# Altium footprint library Speaker.PcbLib: 12 footprints
Each footprint in its own frame and in the unit in brackets; x right, y up, seen from the top. Pads: shape width x height; smd on the part's side, far side on the other; paste and mask are expansions set on the pad; w line width, h text height; cw(c..) or ccw(c..) is an arc to the next point about the centre after c.
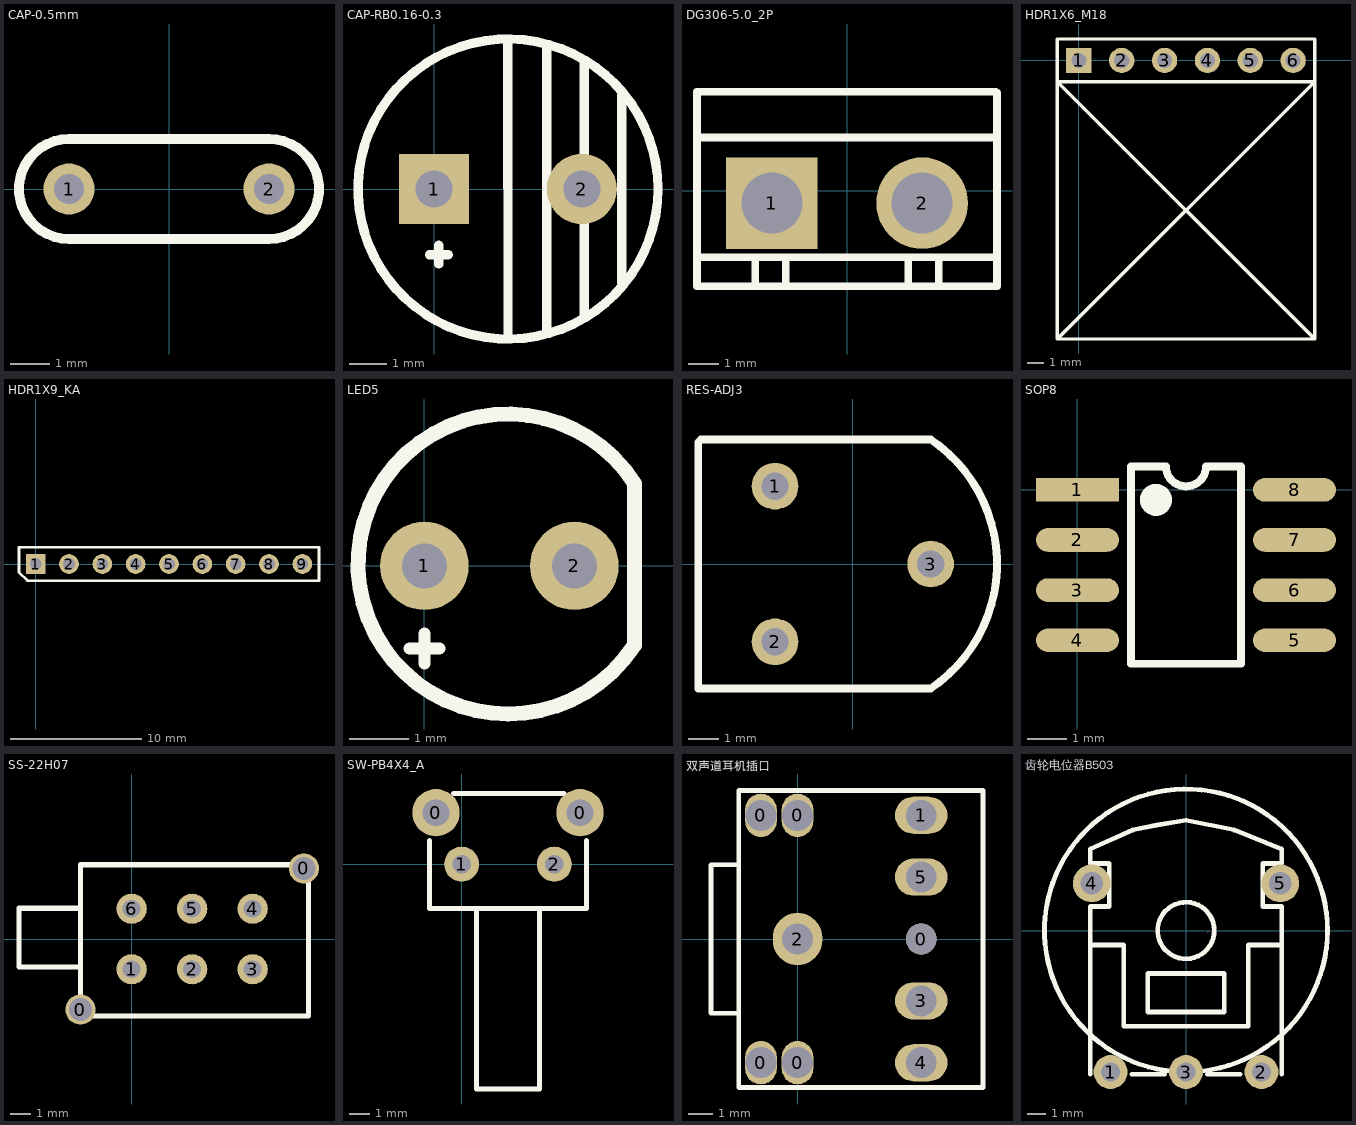
[diagram p0: the footprints below, top view; thin cyan lines are the x and y axes]

## CAP-0.5mm [mm]
pads (2):
  round 1.3 hole 0.762: 1(-2.54,0) 2(2.54,0)
Top Overlay:
  lines w0.254: -2.54,-1.27 cw(c-2.54,0) -2.54,1.27 2.54,1.27 cw(c2.54,0) 2.54,-1.27 -2.54,-1.27

## CAP-RB0.16-0.3 [mm]
pads (2):
  rect 1.9x1.9 hole 1: 1(0,0)
  round 1.9 hole 1: 2(4,0)
Top Overlay:
  circle w0.254: c2,0 r4.064
  lines w0.254: -0.127,-1.778 0.381,-1.778 ; 0.127,-2.032 0.127,-1.524 ; 1.993,3.937 1.999,-3.937 ; 3.048,-3.81 3.048,3.81 ; 4.064,-3.429 4.064,3.429 ; 5.08,-2.54 5.08,2.54

## DG306-5.0_2P [mil]
pads (2):
  rect 120x120 hole 80: 1(-98.5,-16)
  round 120 hole 80: 2(98.34,-16)
Top Overlay:
  lines w10: -196.5,-66.98 -196.5,-125 196.5,-125 196.5,-86.98 ; -196.5,115 -196.5,70 196.5,70 ; -120,-120 -120,-90 ; -80,-120 -80,-90 ; 80,-125 80,-90 ; 120,-125 120,-90 ; 196.5,-86.98 196.5,128.5 195,130 98.25,130 -98.25,130 -196.5,130 -196.5,-86.98 -63.51,-86.98 63.51,-86.98 133.5,-86.98 196.5,-86.98

## HDR1X6_M18 [mm] "Connector; Header; 6 Position"
pads (6):
  rect 1.5x1.5 hole 0.9: 1(0,0)
  round 1.5 hole 0.9: 2(2.54,0) 3(5.08,0) 4(7.62,0) 5(10.16,0) 6(12.7,0)
Top Overlay:
  lines w0.2: -1.27,-1.27 13.97,-1.27 13.97,1.27 -1.27,1.27 -1.27,-1.27
  lines w0.203: -1.27,-16.51 -1.27,-1.27 13.97,-16.51 ; -1.27,-16.51 13.97,-16.51 ; -1.27,-16.51 13.97,-1.27 13.97,-16.51

## HDR1X9_KA [mm] "Connector; Header; 9 Position"
pads (9):
  rect 1.5x1.5 hole 0.9: 1(0,0)
  round 1.5 hole 0.9: 2(2.54,0) 3(5.08,0) 4(7.62,0) 5(10.16,0) 6(12.7,0) 7(15.24,0) 8(17.78,0) 9(20.32,0)
Top Overlay:
  lines w0.2: -1.27,-0.635 -1.27,1.27 21.59,1.27 21.59,-1.27 -0.635,-1.27 -1.27,-0.635

## LED5 [mm]
pads (2):
  round 1.5 hole 0.762: 1(0,0) 2(2.54,0)
Top Overlay:
  lines w0.203: -0.254,-1.397 0.254,-1.397 ; 0,-1.651 0,-1.143
  lines w0.254: 3.528,-1.378 cw(c1.415,0.031) 3.556,1.397 3.556,-1.35

## RES-ADJ3 [mil]
pads (3):
  round 60 hole 35: 1(-100,100) 2(-100,-100) 3(100,0)
Top Overlay:
  lines w10: -198.52,-160 -198.52,-80 -198.52,80 -198.52,156.48 -195,160 100,160 cw(c-7.5,0) 100,-160 -195,-160

## SOP8 [mm]
height 1.75
pads (8):
  rect 2.1x0.6 smd: 1(0,0)
  oval 2.1x0.6 smd: 2(0,-1.27) 3(0,-2.54) 4(0,-3.81) 5(5.5,-3.81) 6(5.5,-2.54) 7(5.5,-1.27) 8(5.5,0)
Top Overlay:
  circle w0.5: c1.988,-0.254 r0.155
  lines w0.2: 1.353,0.595 1.353,-4.405 4.147,-4.405 4.147,0.595
  lines w0.203: 1.353,0.595 2.242,0.595 ccw(c2.75,0.595) 2.75,0.087 ccw(c2.75,0.595) 3.258,0.595 4.147,0.595

## SS-22H07 [mm]
pads (8):
  round 1.5 hole 1.143: 0(-2.54,-3.5) 0(8.54,3.5)
  round 1.5 hole 0.889: 1(0,-1.5) 2(3,-1.5) 3(6,-1.5) 4(6,1.5) 5(3,1.5) 6(0,1.5)
Top Overlay:
  lines w0.25: -2.54,3.683 8.763,3.683 8.763,2.821 8.763,-3.683 ; -2.477,-3.81 0.761,-3.81 5.587,-3.81 8.763,-3.81
  lines w0.254: -2.54,-3.048 -2.54,3.683 ; -2.54,-1.397 -5.588,-1.397 -5.588,1.524 -2.54,1.524

## SW-PB4X4_A [mm]
pads (4):
  round 2.3 hole 1.3: 0(-1.25,2.5) 0(5.75,2.5)
  round 1.7 hole 0.9: 1(0,0) 2(4.5,0)
Top Overlay:
  lines w0.254: -1.56,1.143 -1.56,-2.159 6.06,-2.159 6.06,1.143 ; -0.381,3.429 4.953,3.429 ; 0.726,-2.159 0.726,-10.922 3.774,-10.922 3.774,-2.159

## 双声道耳机插口 [mil]
height 196.85
pads (10):
  oval 51.18x70 hole 50: 0(-59.06,-200) 0(-59.06,200) 0(0,-200) 0(0,200)
  round 50 hole 50: 0(200,0)
  oval 85x60 hole 50: 1(200,200) 3(200,-100) 4(200,-200) 5(200,100)
  oval 80x85 hole 50: 2(0,0)
Top Overlay:
  lines w8: -95,-120 -140,-120 -140,120 -95,120 ; -95,-240 300,-240 300,240 -95,240 -95,160 -95,-160 -95,-240
3D body: height 88.11, standoff -30, extent -19.68,-19.53 19.61,19.68
3D body: height 88.11, standoff -30, extent 180.31,-219.53 219.61,-180.31
3D body: height 88.11, standoff -30, extent 180.31,-119.53 219.61,-80.31
3D body: height 88.11, standoff -30, extent 180.31,82.05 219.61,121.26
3D body: height 88.11, standoff -30, extent 180.31,180.47 219.61,219.69
3D body: height 88.11, standoff -30, extent 188,-11.76 211.58,11.76
3D body: height 88.11, standoff -30, extent -12,188.24 11.58,211.76

## 齿轮电位器B503 [mm]
pads (5):
  round 1.8 hole 1: 1(-4.014,-7.482) 2(3.987,-7.482) 3(-0.013,-7.482)
  round 2 hole 1.2: 4(-5.012,2.518) 5(4.988,2.518)
Top Overlay:
  circle w0.254: c-0.013,0.019 r1.5
  circle w0.254: c-0.013,0.019 r7.5
  lines w0.254: -5.093,-7.601 -5.093,0.019 -5.093,1.289 -4.077,1.289 -4.077,3.575 -5.093,3.575 -5.093,4.337 -2.807,5.353 -1.537,5.607 -0.013,5.861 2.527,5.353 5.067,4.337 5.067,3.575 4.051,3.575 4.051,1.289 5.067,1.289 5.067,0.019 5.067,-7.601 ; -5.093,-0.743 -3.315,-0.743 -3.315,-5.061 3.289,-5.061 3.289,-0.743 5.067,-0.743 ; -2.889,-7.601 -1.138,-7.601 ; 1.112,-7.601 2.862,-7.601 ; -2.045,-4.299 2.019,-4.299 2.019,-2.267 -2.045,-2.267 -2.045,-4.299
Mechanical 15:
  lines w0.003: 1.106,-0.086 1.156,-0.035